# Altium schematic symbol library TPS7A0533PDBVT.SchLib: 2 symbols
Pins are listed as number, name and electrical type; pins without a type are passive.

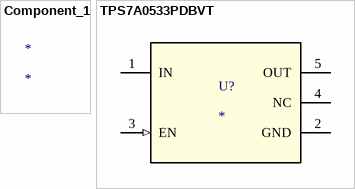
[diagram p0: symbols Component_1 to TPS7A0533PDBVT]

## Component_1
designator *

## TPS7A0533PDBVT
designator U?
No Description Available; Manufacturer: Texas Instruments; PartNumber: TPS7A0508PDBVR; RefDes: RefDes; Type: DEV; Value: Value; Copyright: Copyright (C) 2021 Accelerated Designs. All rights reserved
footprint DBV0005A_N
pins: 1 IN (power), 2 GND (power), 3 EN (in), 4 NC (power), 5 OUT (power)